# Altium footprint library 401.16-3.PcbLib: 1 footprints
Each footprint in its own frame and in the unit in brackets; x right, y up, seen from the top. Pads: shape width x height; smd on the part's side, far side on the other; paste and mask are expansions set on the pad; w line width, h text height; cw(c..) or ccw(c..) is an arc to the next point about the centre after c.
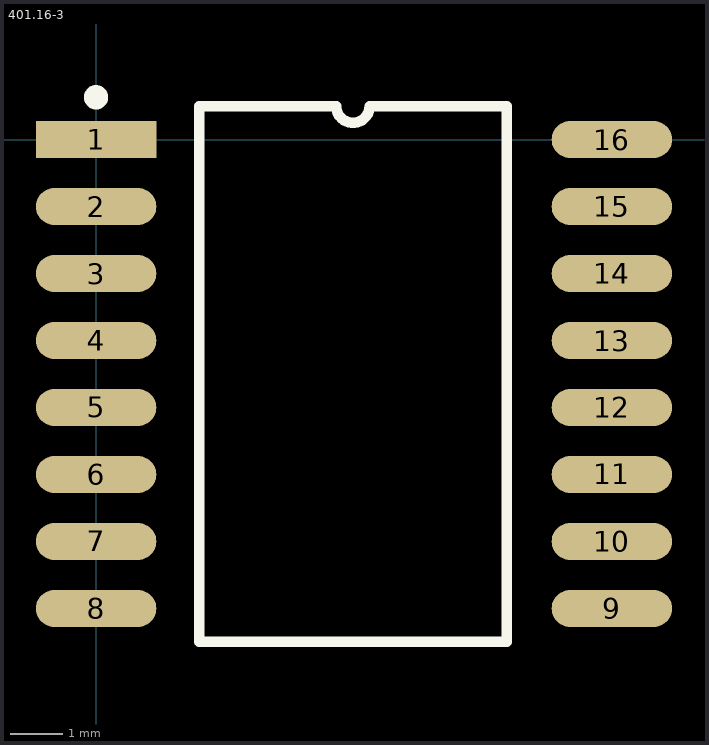
[diagram p0: the footprint, top view; thin cyan lines are the x and y axes]

## 401.16-3 [mil]
pads (16):
  rect 90x27.56 smd: 1(0,0)
  oval 90x27.56 smd: 2(0,-50) 3(0,-100) 4(0,-150) 5(0,-200) 6(0,-250) 7(0,-300) 8(0,-350) 9(385,-350) 10(385,-300) 11(385,-250) 12(385,-200) 13(385,-150) 14(385,-100) 15(385,-50) 16(385,0)
Top Overlay:
  circle w10: c-0.04,31.56 r4.06
  lines w7.87: 76.93,-375 76.93,25 179.19,25 ccw(c191.69,25) 204.19,25 306.46,25 306.46,-375 76.93,-375
3D body "401.16-3.STEP": height 100.39, standoff -1.97, extent 11.81,-374.02 377.95,19.68